# EAGLE library part SIM_6 (library dawidkulpa_con)
Sim card socket
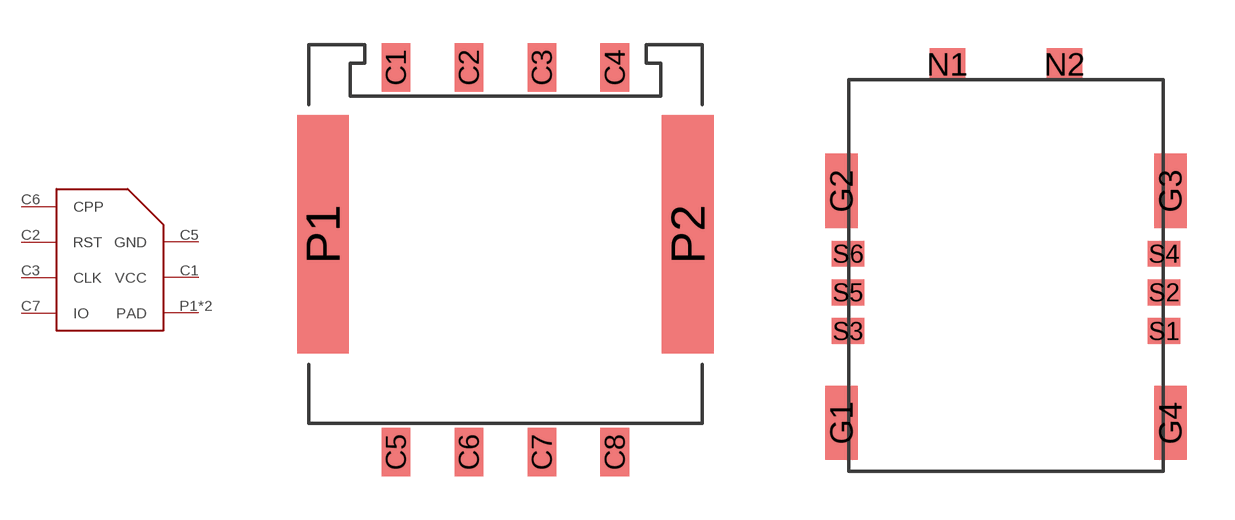
[diagram p7: symbol with the pads of MICROSIM; footprints MICROSIM, NANOSIM]

Designator prefix -

## SIM_6MICRO  [MICROSIM]
C1  VCC
C2  RST
C3  CLK
C5  GND
C6  CPP
C7  IO
P1  PAD
P2  PAD

## SIM_6NANO  [NANOSIM]
G1  PAD
G2  PAD
G3  PAD
G4  PAD
S1  VCC
S2  RST
S3  CLK
S4  GND
S5  CPP
S6  IO

## Footprint MICROSIM (pad centres in mm)
smd 1 x 1.7: C1 -3.81,6.7; C2 -1.27,6.7; C3 1.27,6.7; C4 3.81,6.7; C5 -3.81,-6.7; C6 -1.27,-6.7; C7 1.27,-6.7; C8 3.81,-6.7
smd 1.8 x 8.3: P1 -6.35,0.89; P2 6.35,0.89

## Footprint NANOSIM (pad centres in mm)
smd 1 x 2.3: G1 -5.1,-4.575; G2 -5.1,2.625; G3 5.1,2.625; G4 5.1,-4.575
smd 1.1 x 1: N1 -1.82,6.55; N2 1.82,6.55
smd 1 x 0.8: S1 4.9,-1.725; S2 4.9,-0.525; S3 -4.9,-1.725; S4 4.9,0.675; S5 -4.9,-0.525; S6 -4.9,0.675